# Altium footprint library Buck Converter.PcbLib: 6 footprints
Each footprint in its own frame and in the unit in brackets; x right, y up, seen from the top. Pads: shape width x height; smd on the part's side, far side on the other; paste and mask are expansions set on the pad; w line width, h text height; cw(c..) or ccw(c..) is an arc to the next point about the centre after c.
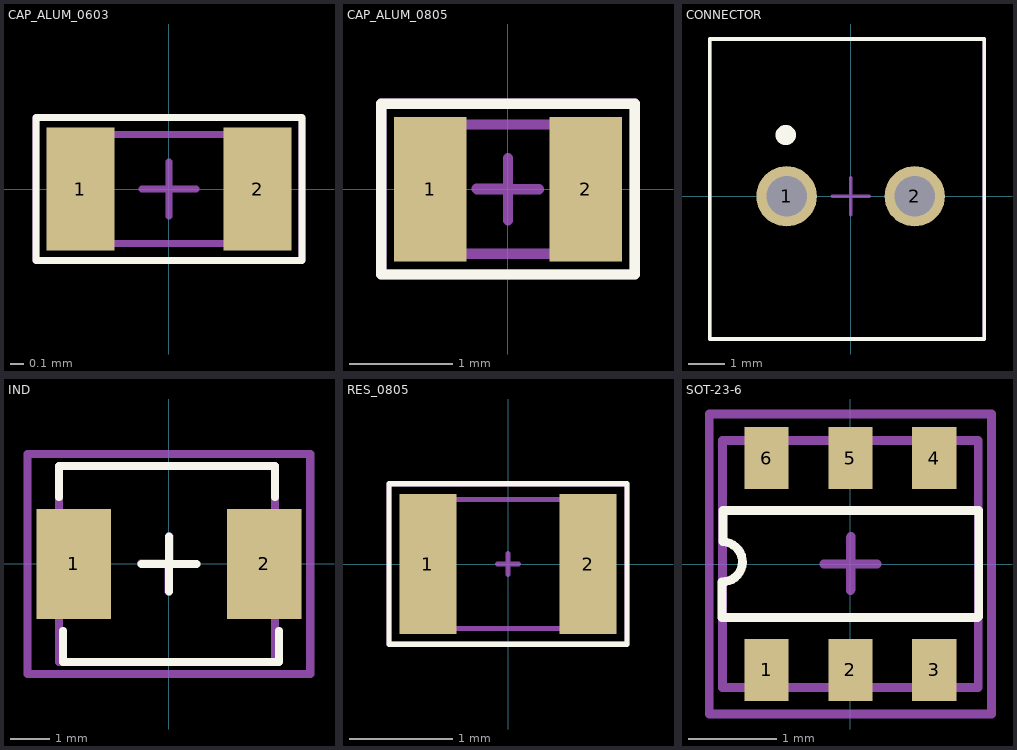
[diagram p0: the footprints below, top view; thin cyan lines are the x and y axes]

## CAP_ALUM_0603 [mm]
pads (2):
  rect 0.5x0.9 smd mask+0.05: 1(-0.65,0) 2(0.65,0)
Top Overlay:
  lines w0.05: -0.975,-0.525 -0.975,0.525 0.975,0.525 0.975,-0.525 -0.975,-0.525
Top 3D Body:
  lines w0.05: -0.2,0 0,0 ; 0,-0.2 0,0 ; 0,0.2 0,0 ; 0.2,0 0,0 ; -0.8,-0.4 -0.8,0.4 0.8,0.4 0.8,-0.4 -0.8,-0.4
Top Component Center:
  lines w0.05: -0.2,0 0,0 ; 0,-0.2 0,0 ; 0,0.2 0,0 ; 0.2,0 0,0 ; -0.975,-0.525 -0.975,0.525 0.975,0.525 0.975,-0.525 -0.975,-0.525
Top Designator:
  lines w0.05: -0.975,-0.525 -0.975,0.525 0.975,0.525 0.975,-0.525 -0.975,-0.525
  text ".Designator" at -0.325,-0.275 h0.6
3D body "CAP_0603.STEP": height 0.9, standoff 0, extent -0.8,-0.4 0.8,0.4

## CAP_ALUM_0805 [mm]
pads (2):
  rect 0.7x1.4 smd mask+0.05: 1(-0.75,0) 2(0.75,0)
Top Overlay:
  lines w0.1: -1.225,-0.825 1.225,-0.825 1.225,0.825 -1.225,0.825 -1.225,-0.825
Top 3D Body:
  lines w0.1: -0.3,0 0,0 ; 0,-0.3 0,0 ; 0,0.3 0,0 ; 0.3,0 0,0 ; -1,-0.625 1,-0.625 1,0.625 -1,0.625 -1,-0.625
Top Component Center:
  lines w0.1: -0.301,0.004 -0.001,0.004 ; 0,-0.3 0,0 ; 0,0.3 0,0 ; 0.3,0 0,0 ; -1.226,-0.821 1.224,-0.821 1.224,0.829 -0.651,0.829 -1.226,0.829 -1.226,-0.821
Top Designator:
  lines w0.1: -1.225,-0.825 1.225,-0.825 1.225,0.825 -0.65,0.825 -1.225,0.825 -1.225,-0.825
  text ".Designator" at -0.15,-0.225 h0.6
3D body "CAP_0805.STEP": height 1.35, standoff 0, extent -1,-0.625 1,0.625

## CONNECTOR [mm]
pads (2):
  round 1.65 hole 1.1: 1(-1.75,0) 2(1.75,0)
Top Overlay:
  circle w0.5: c-1.775,1.675 r0.025
  lines w0.1: -3.85,-3.9 -3.85,4.3 3.65,4.3 3.65,-3.9 -3.85,-3.9
Top 3D Body:
  lines w0.1: -0.5,0 0,0 ; 0,-0.5 0,0 ; 0,0.5 0,0 ; 0.5,0 0,0 ; -3.85,-3.9 3.65,-3.9 3.65,4.3 -3.85,4.3 -3.85,-3.9
Top Component Center:
  lines w0.1: -0.5,0 0,0 ; 0,-0.5 0,0 ; 0,0.5 0,0 ; 0.5,0 0,0 ; -3.85,-3.9 -3.85,4.3 3.65,4.3 3.65,-3.9 -3.85,-3.9
Top Designator:
  lines w0.1: -3.85,-3.9 -3.85,4.3 3.65,4.3 3.65,-3.9 -3.85,-3.9
  text ".Designator" at -0.05,-1.209 h2
3D body "284391-2--3DModel-STEP-1.STEP": height 12.8, standoff -3.3, extent -3.85,-3.9 3.65,4.3

## IND [mm]
pads (2):
  rect 1.905x2.79 smd mask+0.05: 1(-2.425,0) 2(2.426,0)
Top Overlay:
  lines w0.2: -2.8,1.7 -2.8,2.5 2.7,2.5 2.7,1.7 ; -2.7,-1.7 -2.7,-2.5 2.8,-2.5 2.8,-1.7 ; -0.7,0 0,0 ; 0,-0.7 0,0 ; 0,0.7 0,0 ; 0.7,0 0,0
Top 3D Body:
  lines w0.2: -0.7,0 0,0 ; 0,-0.7 0,0 ; 0,0.7 0,0 ; 0.7,0 0,0 ; -2.8,-2.5 2.7,-2.5 2.7,2.5 -2.8,2.5 -2.8,-2.5
Top Component Center:
  lines w0.2: -0.712,0.011 -0.012,0.011 ; -0.008,-0.7 -0.008,0 0.692,0 ; 0,0 0,0.7 ; -3.608,-2.8 3.592,-2.8 3.592,2.8 -2.908,2.8 -3.608,2.8 -3.608,-2.8
Top Designator:
  lines w0.2: -0.703,0.012 -0.003,0.012 ; 0,-0.7 0,0 0.7,0 ; 0.008,0 0.008,0.7 ; -3.6,-2.8 -3.6,2.8 -2.9,2.8 3.6,2.8 3.6,-2.8 -3.6,-2.8
  text ".Designator" at 0.4,-1.1 h1.5
3D body "ETQP3M4R7KVP.STEP": height 3, standoff 0, extent -2.75,-2.5 2.75,2.5

## RES_0805 [mm]
pads (2):
  rect 0.55x1.35 smd mask+0.05: 1(-0.775,0) 2(0.775,0)
Top Overlay:
  lines w0.05: -1.15,-0.775 1.15,-0.775 1.15,0.775 -1.15,0.775 -1.15,-0.775
Top 3D Body:
  lines w0.05: -0.1,0 0,0 ; 0,-0.1 0,0 ; 0,0.1 0,0 ; 0.1,0 0,0 ; -1,-0.625 1,-0.625 1,0.625 -1,0.625 -1,-0.625
Top Component Center:
  lines w0.05: -0.098,-0.001 0.002,-0.001 ; 0,-0.1 0,0 ; 0,0.1 0,0 ; 0.1,0 0,0 ; -1.15,-0.775 1.15,-0.775 1.15,0.775 -1.15,0.775 -1.15,-0.775
Top Designator:
  lines w0.05: -1.15,-0.775 -1.15,0.775 1.15,0.775 1.15,-0.775 -1.15,-0.775
  text ".Designator" at -0.5,-0.358 h0.8
3D body "RES_0805.step": height 0.6, standoff 0, extent -1,-0.625 1,0.625

## SOT-23-6 [mm]
pads (6):
  rect 0.5x0.7 smd mask+0.05: 1(-0.95,-1.2) 2(0,-1.2) 3(0.95,-1.2) 4(0.95,1.2) 5(0,1.2) 6(-0.95,1.2)
Top Overlay:
  lines w0.1: -1.444,0.253 -1.444,0.608 1.456,0.608 1.456,-0.597 ; -1.441,0.251 cw(c-1.45,0.025) -1.456,-0.201 -1.456,-0.608 1.444,-0.608
Top 3D Body:
  lines w0.1: -0.3,0 0,0 0.3,0 ; 0.009,-0.29 0.009,0.01 0.009,0.31 ; -1.45,-1.4 -1.45,1.4 1.45,1.4 1.45,-1.4 -1.45,-1.4
Top Component Center:
  lines w0.1: -0.3,0 0,0 ; 0,-0.3 0,0 ; 0,0.3 0,0 ; 0.3,0 0,0 ; -1.6,-1.7 -1.6,1.7 -1.2,1.7 1.6,1.7 1.6,-1.7 -1.6,-1.7
Top Designator:
  lines w0.1: -1.6,-1.7 1.6,-1.7 1.6,1.7 -1.2,1.7 -1.6,1.7 -1.6,-1.7
  text ".Designator" at -0.3,-0.367 h1
3D body "SOT23-6.STEP": height 1.25, standoff 0, extent -1.46,-1.4 1.46,1.4